# Altium schematic symbol library AD549JHZ.Schlib: 1 symbol
Pins are listed as number, name and electrical type; pins without a type are passive.

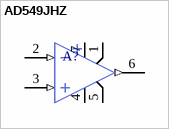
[diagram p0: symbol AD549JHZ]

## AD549JHZ
designator A?  (value not drawn)
pins: 1 OFFSET (power), 2 IN-1 (in), 3 IN+1 (in), 4 V- (power), 5 OFFSET (power), 6 OUTPUT (out), 7 V+ (power)